# Altium footprint library SW_SLW-1678105-6A-N-D.PcbLib: 1 footprints
Each footprint in its own frame and in the unit in brackets; x right, y up, seen from the top. Pads: shape width x height; smd on the part's side, far side on the other; paste and mask are expansions set on the pad; w line width, h text height; cw(c..) or ccw(c..) is an arc to the next point about the centre after c.
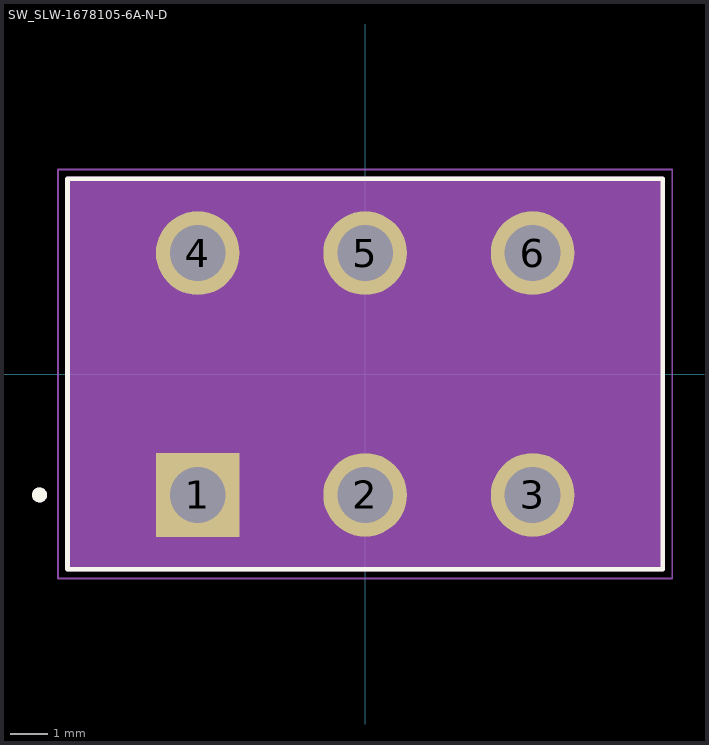
[diagram p0: the footprint, top view; thin cyan lines are the x and y axes]

## SW_SLW-1678105-6A-N-D [mm]
pads (6):
  rect 2.25x2.25 / inner round 2.25 / far side rect 2.25x2.25 hole 1.5: 1(-4.5,-3.25)
  round 2.25 hole 1.5: 2(0,-3.25) 3(4.5,-3.25) 4(-4.5,3.25) 5(0,3.25) 6(4.5,3.25)
Top Overlay:
  circle w0.2: c-8.75,-3.25 r0.1
  lines w0.127: -8,-5.25 8,-5.25 8,5.25 -8,5.25 -8,-5.25
Assembly Top:
  circle w0.2: c-8.75,-3.25 r0.1
  rectangle: -8,-5.25 8,5.25
  lines w0.127: -8,-5.25 8,-5.25 8,5.25 -8,5.25 -8,-5.25
Courtyard Top:
  lines w0.05: -8.25,-5.5 8.25,-5.5 8.25,5.5 -8.25,5.5 -8.25,-5.5